# EAGLE library part LTC4268 (library linear-technology)
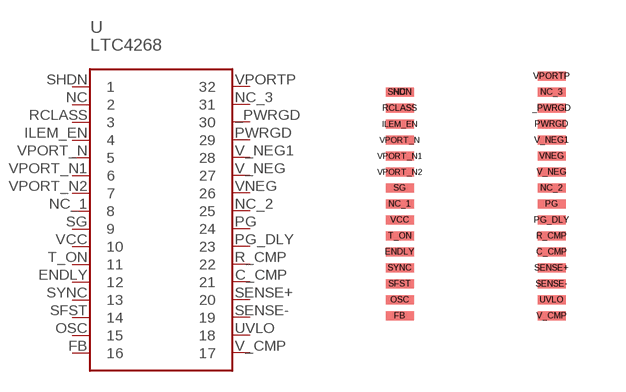
[diagram p20: symbol with the pads of DFN_32; footprint DFN_32]

Designator prefix -

## LTC4268  [DFN_32]
_PWRGD  30
C_CMP  21
ENDLY  12
FB  16
ILEM_EN  4
NC  2
NC_1  8
NC_2  25
NC_3  31
OSC  15
PG  24
PG_DLY  23
PWRGD  29
R_CMP  22
RCLASS  3
SENSE+  20
SENSE-  19
SFST  14
SG  9
SHDN  1
SYNC  13
T_ON  11
UVLO  18
V_CMP  17
V_NEG  27
V_NEG1  28
VCC  10
VNEG  26
VPORT_N  5
VPORT_N1  6
VPORT_N2  7
VPORTP  32

## Footprint DFN_32 (pad centres in mm)
smd 0.7 x 0.23: _PWRGD 1.9,2.2; C_CMP 1.9,-1.4; ENDLY -1.9,-1.4; FB -1.9,-3; ILEM_EN -1.9,1.8; NC -1.9,2.6; NC_1 -1.9,-0.2; NC_2 1.9,0.2; NC_3 1.9,2.6; OSC -1.9,-2.6; PG 1.9,-0.2; PG_DLY 1.9,-0.6; PWRGD 1.9,1.8; R_CMP 1.9,-1; RCLASS -1.9,2.2; SENSE+ 1.9,-1.8; SENSE- 1.9,-2.2; SFST -1.9,-2.2; SG -1.9,0.2; SHDN -1.9,2.6; SYNC -1.9,-1.8; T_ON -1.9,-1; UVLO 1.9,-2.6; V_CMP 1.9,-3; V_NEG 1.9,0.6; V_NEG1 1.9,1.4; VCC -1.9,-0.6; VNEG 1.9,1; VPORT_N -1.9,1.4; VPORT_N1 -1.9,1; VPORT_N2 -1.9,0.6; VPORTP 1.9,3